# Altium footprint library PSK-15D.PcbLib: 1 footprints
Each footprint in its own frame and in the unit in brackets; x right, y up, seen from the top. Pads: shape width x height; smd on the part's side, far side on the other; paste and mask are expansions set on the pad; w line width, h text height; cw(c..) or ccw(c..) is an arc to the next point about the centre after c.
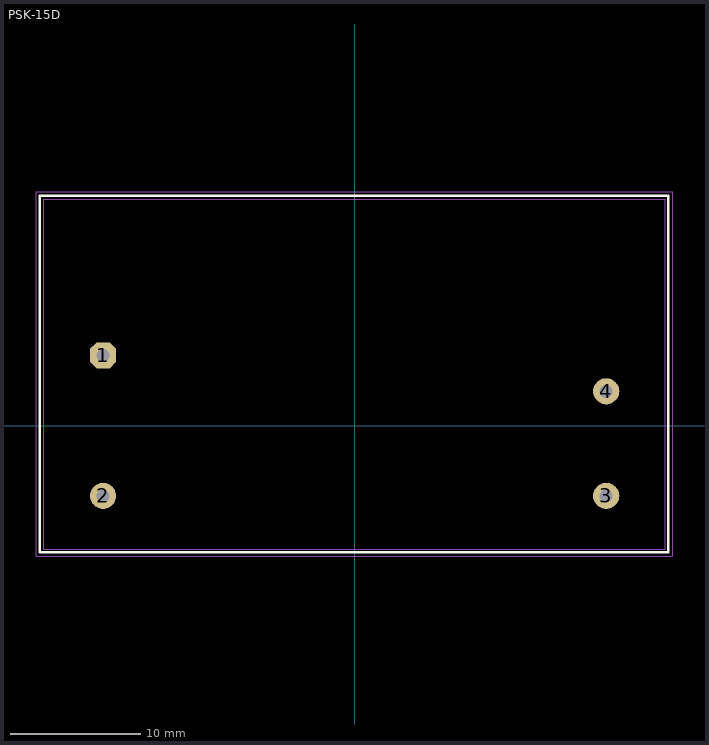
[diagram p0: the footprint, top view; thin cyan lines are the x and y axes]

## PSK-15D [mm]
pads (4):
  oct 2x2 hole 1 mask+0.05: 1(-19.25,5.375)
  round 2 hole 1 mask+0.05: 2(-19.25,-5.375) 3(19.25,-5.375) 4(19.25,2.625)
Top Overlay:
  lines w0.2: -24.1,-9.7 -24.1,17.6 24,17.6 24,-9.7 -24.1,-9.7
Top Assembly:
  lines w0.05: -23.85,-9.475 23.75,-9.475 23.75,17.325 -23.85,17.325 -23.85,-9.475
Top Courtyard:
  lines w0.05: -24.4,-10 24.3,-10 24.3,17.9 -24.4,17.9 -24.4,-10
3D body "CUI_PSK-15D-5.step": height 23.7, standoff -3.9, extent -23.825,-9.45 23.775,17.35